# Altium footprint library 618015231121.PcbLib: 1 footprints
Each footprint in its own frame and in the unit in brackets; x right, y up, seen from the top. Pads: shape width x height; smd on the part's side, far side on the other; paste and mask are expansions set on the pad; w line width, h text height; cw(c..) or ccw(c..) is an arc to the next point about the centre after c.
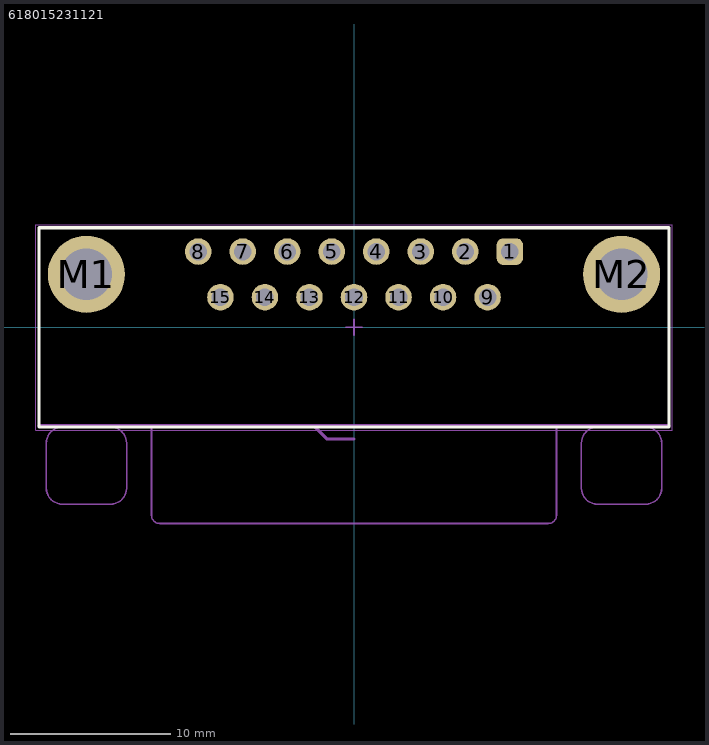
[diagram p0: the footprint, top view; thin cyan lines are the x and y axes]

## 618015231121 [mm] "15 pins, right angled, 8.08mm, with hex screw"
height 12.5
pads (17):
  rrect50% 1.65x1.65 hole 1.09: 1(9.695,4.72)
  round 1.65 hole 1.09: 2(6.925,4.72) 3(4.155,4.72) 4(1.385,4.72) 5(-1.385,4.72) 6(-4.155,4.72) 7(-6.925,4.72) 8(-9.695,4.72) 9(8.31,1.88) 10(5.54,1.88) 11(2.77,1.88) 12(0,1.88) 13(-2.77,1.88) 14(-5.54,1.88) 15(-8.31,1.88)
  round 4.8 hole 3.2: M1(-16.65,3.3) M2(16.65,3.3)
Top Overlay:
  lines w0.2: -19.6,-6.2 19.6,-6.2 19.6,6.2 -19.6,6.2 -19.6,-6.2
Assembly Notes:
  lines w0.2: -19.6,-6.12 19.6,-6.12 ; -2.5,-6.12 -1.67,-6.95 0,-6.95
  text "PCB Edge" at 0.4,-7.55 h1.02
Top Assembly:
  lines w0.1: -18.15,-6.2 ccw(c-18.15,-7.2) -19.15,-7.2 -19.15,-10 ccw(c-18.15,-10) -18.15,-11 -15.15,-11 ccw(c-15.15,-10) -14.15,-10 -14.15,-7.2 ccw(c-15.15,-7.2) -15.15,-6.2 ; -12.6,-6.2 -12.6,-11.7 ccw(c-12.1,-11.7) -12.1,-12.2 12.1,-12.2 ccw(c12.1,-11.7) 12.6,-11.7 12.6,-6.2 ; 15.15,-6.2 ccw(c15.15,-7.2) 14.15,-7.2 14.15,-10 ccw(c15.15,-10) 15.15,-11 18.15,-11 ccw(c18.15,-10) 19.15,-10 19.15,-7.2 ccw(c18.15,-7.2) 18.15,-6.2 ; -19.6,-6.2 19.6,-6.2 19.6,6.2 -19.6,6.2 -19.6,-6.2 ; 3.8,-12.2 3.8,-12.2
Top Designator:
  text ".Designator" at -3.647,-0.357 h1
Top Courtyard:
  lines w0.05: -19.8,-6.4 -19.8,6.4 19.8,6.4 19.8,-6.4 -19.8,-6.4
Top Component Center:
  lines w0.1: -0.5,0 0.5,0 ; 0,-0.5 0,0.5
3D body "618015231121.stp": height 12.55, standoff -3.95, extent -19.6,-12.2 19.6,6.2